# EAGLE library part AP65111A (library STM32F030RCT6TR)
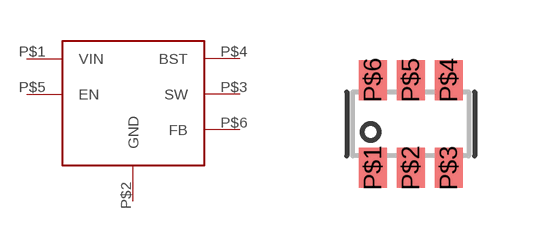
[diagram p1: symbol with the pads of TSOT26; footprint TSOT26]

Designator prefix -

## AP65111A  [TSOT26]
P$1  VIN
P$2  GND
P$3  SW
P$4  BST
P$5  EN
P$6  FB

## Footprint TSOT26 (pad centres in mm)
smd 0.7 x 1: P$1 -0.95,-1.099; P$2 0,-1.099; P$3 0.95,-1.099; P$4 0.95,1.099; P$5 0,1.099; P$6 -0.95,1.099